# Altium schematic symbol library TNY277GN.Schlib: 1 symbol
Pins are listed as number, name and electrical type; pins without a type are passive.

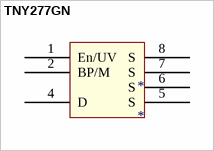
[diagram p0: symbol TNY277GN]

## TNY277GN
designator *
pins: 1 En/UV, 2 BP/M, 4 D, 5 S, 6 S, 7 S, 8 S